# Altium schematic symbol library Switch.SchLib: 11 symbols
Pins are listed as number, name and electrical type; pins without a type are passive.

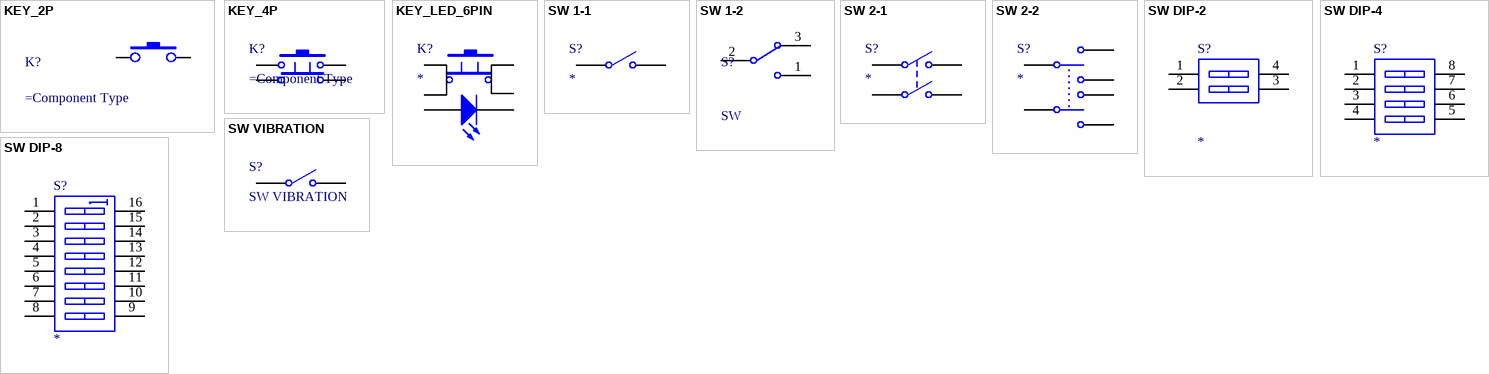
[diagram p0: symbols KEY_2P to SW VIBRATION]

## KEY_2P
designator K?
KEY_2PIN
pins: 1, 2

## KEY_4P
designator K?
KEY_4PIN
pins: 1 COMMON1, 2 NO1, 3 COMMON2, 4 NO2

## KEY_LED_6PIN
designator K?
KEY WITH A LED,6PIN
footprint KEY-LED_6.2*7.54
pins: 1 COMMON1, 2 COMMON2, 3 NO1, 4 NO2, L1 A, L2 K

## SW 1-1
designator S?
switch 1 to 1
footprint SW-SS01_W
footprint ETEN1021
pins: 1 COMMON, 2 NO

## SW 1-2
designator S?, comment SW
switch 1 to 2; Published: 24-Mar-1999; LatestRevisionDate: 17-Dec-2003; LatestRevisionNote: Schematic revised, PCB Footprint replaced.; DatasheetDocument: ##########; Publisher: Altium Limited; ComponentLink1Description: Manufacturer Link; ComponentLink1URL: http://www.apem.com
footprint SWITCH
pins: 1, 2, 3

## SW 2-1
designator S?
switch 2 to 1
pins: 1 COMMON1, 2 NO1, 3 COMMON2, 4 NO2

## SW 2-2
designator S?
switch 2 to 2
pins: 1, 2, 3, 4, 5, 6

## SW DIP-2
designator S?
DIP Switch
footprint SW-DIP-2
pins: 1 A1, 2 A2, 3 B2, 4 B1

## SW DIP-4
designator S?
DIP Switch
footprint SW-DIP-4
pins: 1 A1, 2 A2, 3 A3, 4 A4, 5 B4, 6 B3, 7 B2, 8 B1

## SW DIP-8
designator S?
DIP Switch
pins: 1 A1, 2 A2, 3 A3, 4 A4, 5 A5, 6 A6, 7 A7, 8 A8, 9 B8, 10 B7, 11 B6, 12 B5, 13 B4, 14 B3, 15 B2, 16 B1

## SW VIBRATION
designator S?
vibration switch
footprint SW-VIBRATION
pins: 1 COMMON, 2 NO